# EAGLE library part DS1302S (library CEDTv79)
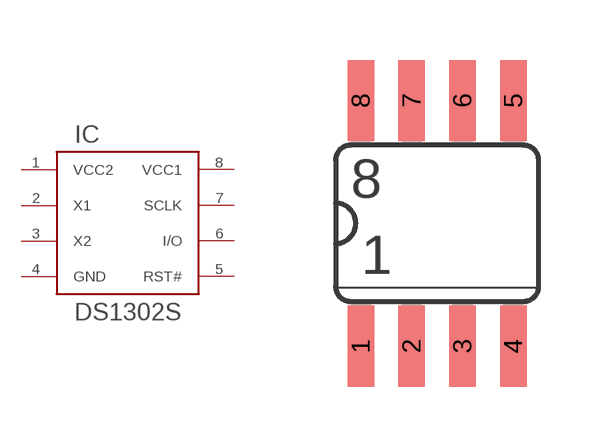
[diagram p4: symbol with the pads of SOIC08; footprint SOIC08]

Designator prefix IC

## DS1302S  [SOIC08]
1  VCC2  in
2  X1  in
3  X2  in
4  GND  pwr
5  RST#
6  I/O  in
7  SCLK
8  VCC1  pwr

## Footprint SOIC08 (pad centres in mm)
smd 0.66 x 2.032: 1 -1.905,-3.073; 2 -0.635,-3.073; 3 0.635,-3.073; 4 1.905,-3.073; 5 1.905,3.073; 6 0.635,3.073; 7 -0.635,3.073; 8 -1.905,3.073